# EAGLE library part LDB-600L (library LDB-600L)
LED Power Supplies 9-28Vin 2-30Vout 600mA pin style Source: Datasheet <https://www.meanwell.com/Upload/PDF/LDB-L/LDB-L-SPEC.PDF>
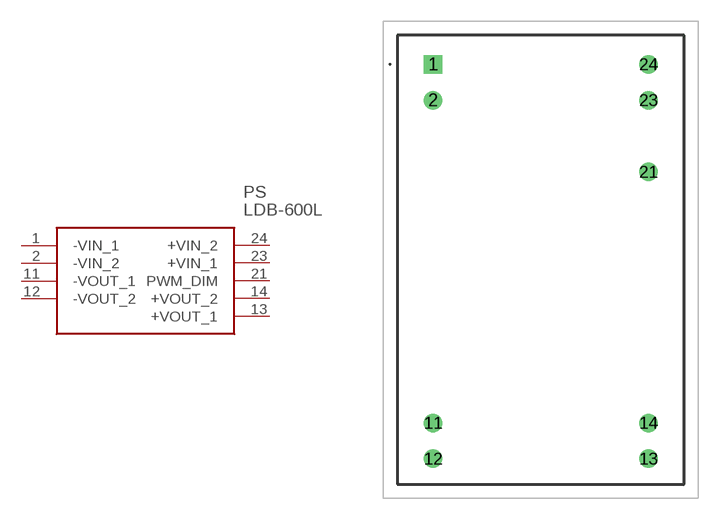
[diagram p0: symbol with the pads of LDB600L; footprint LDB600L]

Designator prefix PS

## LDB-600L (Description: LED Power Supplies 9-28Vin 2-30Vout 600mA pin style; Height: 12.25mm; Manufacturer_Name: Mean Well; Manufacturer_Part_Number: LDB-600L; Mouser_Part_Number: 709-LDB-600L; Mouser_Price-Stock: https://www.mouser.co.uk/ProductDetail/MEAN-WELL/LDB-600L/?qs=GaJ26EWJkZSmCfvt0r4d6g%3D%3D)  [LDB600L]
1  -VIN_1
2  -VIN_2
11  -VOUT_1
12  -VOUT_2
13  +VOUT_1
14  +VOUT_2
21  PWM_DIM
23  +VIN_1
24  +VIN_2

## Footprint LDB600L (pad centres in mm)
LDB-600L-2
drill 0.8 pad 1.3 square: 1 0,0
drill 0.8 pad 1.3: 2 0,-2.54; 11 0,-25.4; 12 0,-27.94; 13 15.24,-27.94; 14 15.24,-25.4; 21 15.24,-7.62; 23 15.24,-2.54; 24 15.24,0